# EAGLE library part MAX9934TAUA+ (library MAX9934)
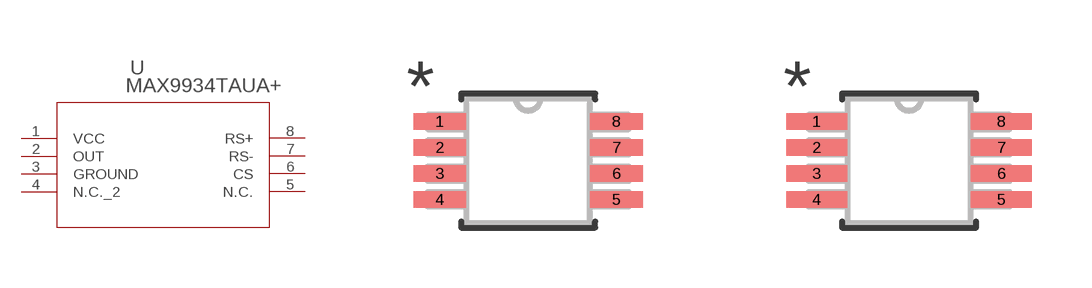
[diagram p1: symbol with the pads of 21-0036_U8+1_MXM; footprints 21-0036_U8+1_MXM, 21-0036_U8+1_MXM-M]

Designator prefix U

## MAX9934TAUA+ (COPYRIGHT: Copyright (C) 2023 Ultra Librarian. All rights reserved.; MANUFACTURER_PART_NUMBER: MAX9934TAUA+; MFR_NAME: Analog Devices Inc)  [21-0036_U8+1_MXM]
1  VCC  pwr
2  OUT  out
3  GROUND  pwr
4  N.C._2  nc
5  N.C.  nc
6  CS  in
7  RS-  in
8  RS+  in

## MAX9934TAUA+21-0036_U8+1_MXM-M (COPYRIGHT: Copyright (C) 2023 Ultra Librarian. All rights reserved.; MANUFACTURER_PART_NUMBER: MAX9934TAUA+; MFR_NAME: Analog Devices Inc)  [21-0036_U8+1_MXM-M]
Pads as for 21-0036_U8+1_MXM

## MAX9934TAUA+21-0036_U8+1_MXM-L (COPYRIGHT: Copyright (C) 2023 Ultra Librarian. All rights reserved.; MANUFACTURER_PART_NUMBER: MAX9934TAUA+; MFR_NAME: Analog Devices Inc)  [21-0036_U8+1_MXM-L]
Pads as for 21-0036_U8+1_MXM

## Footprint 21-0036_U8+1_MXM (pad centres in mm)
smd 1.321 x 0.406: 1 -2.21,0.975; 2 -2.21,0.325; 3 -2.21,-0.325; 4 -2.21,-0.975; 5 2.21,-0.975; 6 2.21,-0.325; 7 2.21,0.325; 8 2.21,0.975

## Footprint 21-0036_U8+1_MXM-M (pad centres in mm)
smd 1.524 x 0.406: 1 -2.311,0.975; 2 -2.311,0.325; 3 -2.311,-0.325; 4 -2.311,-0.975; 5 2.311,-0.975; 6 2.311,-0.325; 7 2.311,0.325; 8 2.311,0.975

## Footprint 21-0036_U8+1_MXM-L (pad centres in mm)
smd 1.067 x 0.356: 1 -2.134,0.975; 2 -2.134,0.325; 3 -2.134,-0.325; 4 -2.134,-0.975; 5 2.134,-0.975; 6 2.134,-0.325; 7 2.134,0.325; 8 2.134,0.975